# EAGLE library part QG-6432TSWEG02 (library QG-6432TSWEG02)
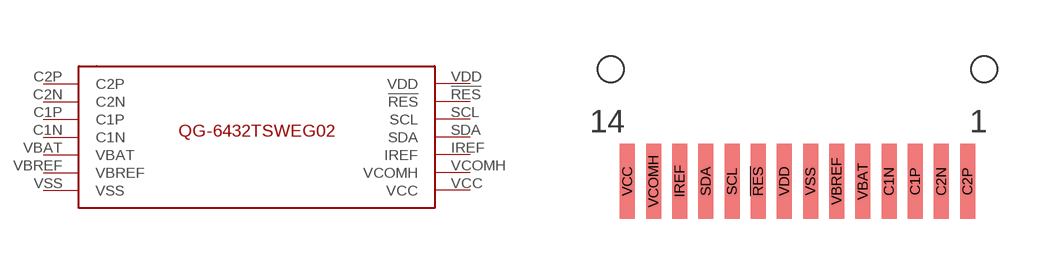
[diagram p0: symbol with the pads of QG-6432TSWEG02; footprint QG-6432TSWEG02]

Designator prefix -

## QG-6432TSWEG02  [QG-6432TSWEG02]
!RES  !RES
C1N  C1N
C1P  C1P
C2N  C2N
C2P  C2P
IREF  IREF
SCL  SCL
SDA  SDA
VBAT  VBAT
VBREF  VBREF
VCC  VCC
VCOMH  VCOMH
VDD  VDD
VSS  VSS

## Footprint QG-6432TSWEG02 (pad centres in mm)
smd 0.4 x 2: !RES -1.05,1; C1N 2.45,1; C1P 3.15,1; C2N 3.85,1; C2P 4.55,1; IREF -3.15,1; SCL -1.75,1; SDA -2.45,1; VBAT 1.75,1; VBREF 1.05,1; VCC -4.55,1; VCOMH -3.85,1; VDD -0.35,1; VSS 0.35,1
hole 0.7 at -5,4
hole 0.7 at 5,4